# Altium schematic symbol library capacitor-0402.SchLib: 1 symbol
Pins are listed as number, name and electrical type; pins without a type are passive.

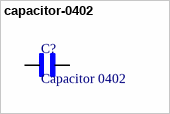
[diagram p0: symbol capacitor-0402]

## capacitor-0402
designator C?, comment Capacitor 0402
NP0 01005 (0402 Metric)
footprint capacitor-0402 (NP0 01005 (0402 Metric))
pins: 1, 2